# EAGLE library part TRINKET (library redhunter)
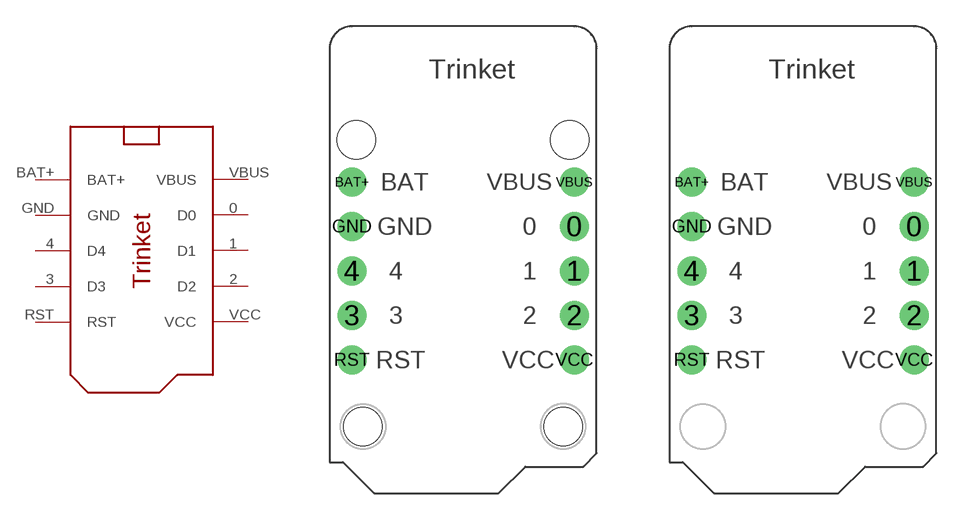
[diagram p0: symbol with the pads of TRINKET; footprints TRINKET, TRINKET_NOHOLES]

Designator prefix -

## TRINKETHOLES  [TRINKET]
0  D0
1  D1
2  D2
3  D3
4  D4
BAT+  BAT+  pwr
GND  GND  pwr
RST  RST  pas
VBUS  VBUS  pwr
VCC  VCC  pwr

## TRINKETNOHOLES  [TRINKET_NOHOLES]
Pads as for TRINKET

## Footprint TRINKET (pad centres in mm)
drill 1.1: 0 6.35,1.27; 1 6.35,-1.27; 2 6.35,-3.81; 3 -6.35,-3.81; 4 -6.35,-1.27; BAT+ -6.35,3.81; GND -6.35,1.27; RST -6.35,-6.35; VBUS 6.35,3.81; VCC 6.35,-6.35
hole 2.2 at -6.096,6.223
hole 2.2 at 6.096,6.223
hole 2.2 at -5.715,-10.16
hole 2.2 at 5.715,-10.16

## Footprint TRINKET_NOHOLES (pad centres in mm)
Trinket USB Micro - no holes
drill 1.1: 0 6.35,1.27; 1 6.35,-1.27; 2 6.35,-3.81; 3 -6.35,-3.81; 4 -6.35,-1.27; BAT+ -6.35,3.81; GND -6.35,1.27; RST -6.35,-6.35; VBUS 6.35,3.81; VCC 6.35,-6.35